# Altium schematic symbol library za_koncar.SchLib: 67 symbols
Pins are listed as number, name and electrical type; pins without a type are passive.

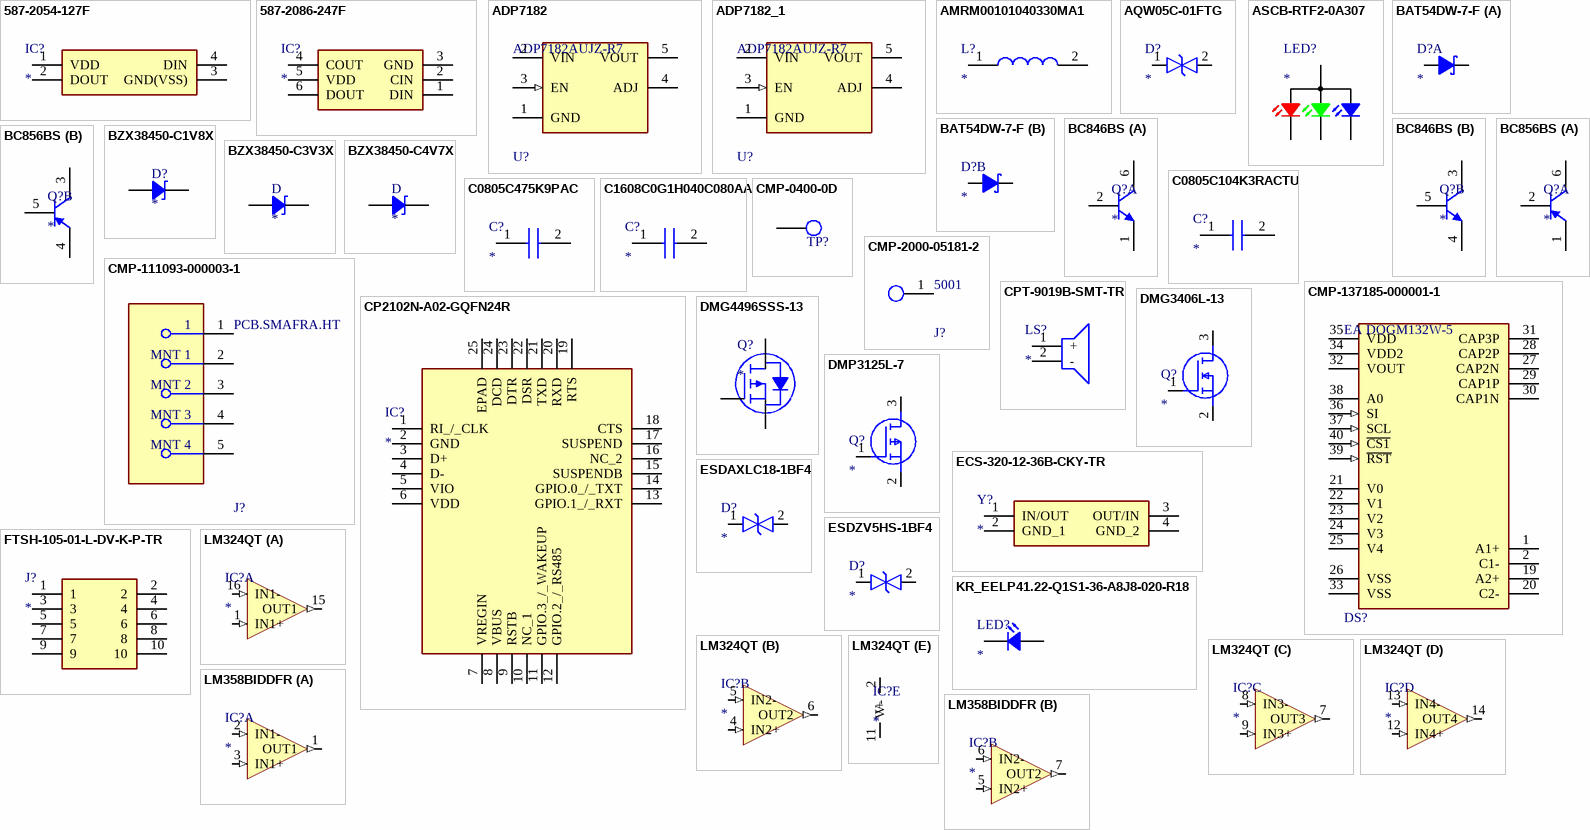
[diagram p0: symbols 587-2054-127F to LM358BIDDFR]

## 587-2054-127F
designator IC?
Integrated Circuit; Manufacturer_Name: Dialight; Manufacturer_Part_Number: 587-2054-127F; Datasheet Link: https://www.digikey.ph/en/products/detail/dialight/587-2054-127F/25321961; Height: 1.6mm; Mouser Part Number: 645-587-2054-127F; Mouser Price/Stock: https://www.mouser.co.uk/ProductDetail/Dialight/587-2054-127F?qs=iLKYxzqNS74CVWyAqozDmw%3D%3D
footprint 5872054127F
pins: 1 VDD, 2 DOUT, 3 GND(VSS), 4 DIN

## 587-2086-247F
designator IC?
Integrated Circuit; Manufacturer_Name: Dialight; Manufacturer_Part_Number: 587-2086-247F; Description: Addressable Lighting 587 1 LED Discrete Red; Datasheet Link: https://s3-us-west-2.amazonaws.com/catsy.557/Dialight_datasheet_587-2086-247F_Addressable_RGB.pdf; Height: 1mm; Mouser Part Number: 645-587-2086-247F; Mouser Price/Stock: https://www.mouser.co.uk/ProductDetail/Dialight/587-2086-247F?qs=iLKYxzqNS76TDIp9wEi56Q%3D%3D
footprint 5872086247F
pins: 1 DIN, 2 CIN, 3 GND, 4 COUT, 5 VDD, 6 DOUT

## ADP7182
designator U?, comment ADP7182AUJZ-R7
IC REG LIN NEG ADJ 200MA 5TSOT; Manufacturer: Analog Devices; Number Of Outputs: 1; Min Supply Voltage: -2.7V; Max Junction Temp: +125°C; Dropout Voltage: -185mV; Output Current: -200mA; Max Supply Voltage: -28V; Output Voltage: -1.22/-27.815V; Nominal Supply Current: -33/-650uA; Output Type: AdjustableProgrammable; Accuracy Percentage: 1%; RoHS: TRUE; Ambient Temperature Range Low: -40°C; Digikey Description: IC REG LIN NEG ADJ 200MA 5TSOT; Device Class L3: Voltage Regulators - Linear; Ambient Temperature Range High: +85°C; Manufacturer Part Number: ADP7182AUJZ-R7; ComponentLink2URL: https://www.analog.com/media/en/technical-documentation/data-sheets/ADP7182.pdf; Ipc Land Pattern Name: SOT95P280X100-5; Temperature Range Low: -40°C; ComponentLink2Description: Datasheet; Mouser Description: LDO Regulator Neg -1.22V to -27V 0.2A 5-Pin TSOT T/R; Category: IC; Automotive: No; Device Class L1: Integrated Circuits (ICs); Temperature: -40°C to +125°C; Octopart: https://octopart.com/adp7182aujz-r7-analog+devices-21054665; Device Class L2: Power Management ICs; Height: 1mm; Package: UJ-5; Temperature Range High: +125°C; Lead Free: Yes
footprint FP-UJ-5-IPC_B
pins: 1 GND (power), 2 VIN (power), 3 EN (in), 4 ADJ, 5 VOUT (power)

## ADP7182_1
designator U?, comment ADP7182AUJZ-R7
IC REG LIN NEG ADJ 200MA 5TSOT; Manufacturer: Analog Devices; Number Of Outputs: 1; Min Supply Voltage: -2.7V; Max Junction Temp: +125°C; Dropout Voltage: -185mV; Output Current: -200mA; Max Supply Voltage: -28V; Output Voltage: -1.22/-27.815V; Nominal Supply Current: -33/-650uA; Output Type: AdjustableProgrammable; Accuracy Percentage: 1%; RoHS: TRUE; Ambient Temperature Range Low: -40°C; Digikey Description: IC REG LIN NEG ADJ 200MA 5TSOT; Device Class L3: Voltage Regulators - Linear; Ambient Temperature Range High: +85°C; Manufacturer Part Number: ADP7182AUJZ-R7; ComponentLink2URL: https://www.analog.com/media/en/technical-documentation/data-sheets/ADP7182.pdf; Ipc Land Pattern Name: SOT95P280X100-5; Temperature Range Low: -40°C; ComponentLink2Description: Datasheet; Mouser Description: LDO Regulator Neg -1.22V to -27V 0.2A 5-Pin TSOT T/R; Category: IC; Automotive: No; Device Class L1: Integrated Circuits (ICs); Temperature: -40°C to +125°C; Octopart: https://octopart.com/adp7182aujz-r7-analog+devices-21054665; Device Class L2: Power Management ICs; Height: 1mm; Package: UJ-5; Temperature Range High: +125°C; Lead Free: Yes
footprint FP-UJ-5-IPC_B
pins: 1 GND (power), 2 VIN (power), 3 EN (in), 4 ADJ, 5 VOUT (power)

## AMRM00101040330MA1
designator L?
Inductor; Manufacturer_Name: Pulse Electronics; Manufacturer_Part_Number: AMRM00101040330MA1; Value: 33uH; Datasheet Link: https://productfinder.pulseelectronics.com/api/open/part-attachments/datasheet/amrm00101040330ma1; Height: 4mm; Mouser Part Number: 673-AMRM101040330MA1; Mouser Price/Stock: https://www.mouser.co.uk/ProductDetail/Pulse-Electronics/AMRM00101040330MA1?qs=HoCaDK9Nz5eI6M5ad0CXDA%3D%3D
footprint INDPM116102X400N
pins: 1, 2

## AQW05C-01FTG
designator D?
TVS Diode (Bi-directional); Manufacturer_Name: LITTELFUSE; Manufacturer_Part_Number: AQW05C-01FTG; Datasheet Link: https://www.littelfuse.com/media?resourcetype=datasheets&itemid=80ae0bbb-a157-46a1-97eb-84c82c82e9e5&filename=littelfuse-tvs-diode-array-aqw05c-01ftg-datasheet; Height: 1mm; Mouser Part Number: 576-AQW05C-01FTG; Mouser Price/Stock: https://www.mouser.co.uk/ProductDetail/Littelfuse/AQW05C-01FTG?qs=Z%252BL2brAPG1JHH8XKoKQPyw%3D%3D
footprint SOD2613X100N
pins: 1, 2

## ASCB-RTF2-0A307
designator LED?
LED; Manufacturer_Name: Avago Technologies; Manufacturer_Part_Number: ASCB-RTF2-0A307; Datasheet Link: https://docs.broadcom.com/doc/ASCB-RTF2-0A307-1716-Tricolor-PLCC-4-LED-DS; Height: 1.8mm; Mouser Part Number: 630-ASCB-RTF2-0A307; Mouser Price/Stock: https://www.mouser.co.uk/ProductDetail/Broadcom-Avago/ASCB-RTF2-0A307?qs=TuK3vfAjtkXoMfo3JwZUxg%3D%3D
footprint ASCBRTF20A307
pins: 1 COMMON_ANODE, 2 RED_CATHODE, 3 GREEN_CATHODE, 4 BLUE_CATHODE

## BAT54DW-7-F
designator D?
Diode; Manufacturer_Name: Diodes Incorporated; Manufacturer_Part_Number: BAT54DW-7-F; Datasheet Link: https://www.diodes.com//assets/Datasheets/BAT54DW.pdf; Height: 1.1mm; Mouser Part Number: 621-BAT54DW-F; Mouser Price/Stock: https://www.mouser.com/Search/Refine.aspx?Keyword=621-BAT54DW-F; Arrow Part Number: BAT54DW-7-F; Arrow Price/Stock: https://www.arrow.com/en/products/bat54dw-7-f/diodes-incorporated
footprint SOT65P222X110-6N
part A pins: 1 A1, 6 C1
part B pins: 3 C2, 4 A2

## BC846BS
designator Q?
65 V, 100 mA matched NPN/NPN general-purpose transistor; ComponentLink1Description: Datasheet; ComponentLink1URL: https://assets.nexperia.com/documents/data-sheet/BC846BS.pdf
footprint TSOP65P210X110-6N (TSOP, 6-Leads, Body 2.00x1.25mm, Pitch 0.65mm, IPC Medium Density)
part A pins: 1 E1, 2 B1, 6 C1
part B pins: 3 C2, 4 E2, 5 B2

## BC856BS
designator Q?
65 V, 100 mA matched PNP/PNP general-purpose transistor
footprint TSOP65P210X110-6N (TSOP, 6-Leads, Body 2.00x1.25mm, Pitch 0.65mm, IPC Medium Density)
part A pins: 1 E1, 2 B1, 6 C1
part B pins: 3 C2, 4 E2, 5 B2

## BZX38450-C1V8X
designator D?
footprint SOD323
pins: 1, 2

## BZX38450-C3V3X
designator D
footprint SOD323
pins: 1, 2

## BZX38450-C4V7X
designator D
footprint SOD323
pins: 1, 2

## C0805C104K3RACTU
designator C?
Capacitor; Manufacturer_Name: KEMET; Manufacturer_Part_Number: C0805C104K3RACTU; Datasheet Link: https://content.kemet.com/datasheets/KEM_C1002_X7R_SMD.pdf; Height: 1.1mm; Mouser Part Number: 80-C0805C104K3R; Mouser Price/Stock: https://www.mouser.co.uk/ProductDetail/KEMET/C0805C104K3RACTU?qs=zZwvocWqSRjmUvfNxkIN%2Fg%3D%3D; Arrow Part Number: C0805C104K3RACTU; Arrow Price/Stock: https://www.arrow.com/en/products/c0805c104k3ractu/kemet-corporation
footprint C0805
pins: 1, 2

## C0805C475K9PAC
designator C?
Capacitor; Manufacturer_Name: KEMET; Manufacturer_Part_Number: C0805C475K9PAC; Datasheet Link: https://componentsearchengine.com/Datasheets/2/C0805C475K8RACTU.pdf; Height: 1.4mm; Mouser Part Number: 80-C0805C475K9PAC; Mouser Price/Stock: https://www.mouser.co.uk/ProductDetail/KEMET/C0805C475K9PAC?qs=AHS6Mz2dKxNT7foClPNFpA%3D%3D; Arrow Part Number: C0805C475K9PAC; Arrow Price/Stock: https://www.arrow.com/en/products/c0805c475k9pac/kemet-corporation?region=nac
footprint C0805
pins: 1, 2

## C1608C0G1H040C080AA
designator C?
Capacitor; Manufacturer_Name: TDK; Manufacturer_Part_Number: C1608C0G1H040C080AA; Datasheet Link: https://product.tdk.com/info/en/catalog/datasheets/mlcc_commercial_midvoltage_en.pdf; Height: 0.8mm; Arrow Part Number: C1608C0G1H040C080AA; Arrow Price/Stock: https://www.arrow.com/en/products/c1608c0g1h040c080aa/tdk
footprint CAPC1608X80N
pins: 1, 2

## CMP-0400-0D
designator TP?, comment TP1  (value not drawn)  (no BOM)
Test pad, round, 1mm; Manufacturer: Končar; ManufacturerPartNumber: Test_pad_1mm; MountingType: SMD; PartStatus: Active; Value: TP1; ValueNumeric: TP1; ClassName: CH1
footprint Test pad 1mm
pins: 1

## CMP-2000-05181-2
designator J?, comment 5001
PC TEST POINT MINIATURE BLACK; Body Material: Bronze; Plating: Silver; Inside Diameter: 1.27mm; Hole Diameter: 1.6mm; Number of Ports: 1; Outside Diameter: 2.54mm; Insulation: Insulated; Insulation Material: Nylon; Mount: Through Hole; RoHS Compliant: Yes; Series: THM; Height: 0.3inch; Termination: Through Hole; Material: Nylon; Packaging: Bulk; Contact Material: Bronze; REACH SVHC: No SVHC; Contact Plating: Silver; Orientation: Straight; Lead Free: Lead Free; Package Quantity: 100; Length: 7.62mm; Flammability Rating: UL94 V-0; Number of Contacts: 1; Diameter: 2.54mm; Housing Color: Black; Color: Black
footprint FP-5001-MFG
pins: 1

## CMP-111093-000003-1
designator J?, comment PCB.SMAFRA.HT
CONN SMA JACK R/A 50OHM PCB; Dielectric Material: PTFE; Max Frequency: 6GHz; Body Material: Brass; Center Contact Plating: Gold; Voltage Rating: 500V; Operating Frequency: 0 to 6 GHz; Number of Ports: 1; Impedance: 50R; Housing Color: Gold; Mount: Through Hole; Orientation: Right Angle; Termination: Solder; Contact Material: Brass; Series: -; Contact Plating: Gold; Fastening Type: Threaded; Connector Type: SMA; Package Quantity: 500; Case/Package: SMA; Body Plating: Gold; Frequency: 6GHz; Packaging: Tray
footprint FP-PCB_SMAFRA_HT-MFG
pins: 1, 2 MNT 1, 3 MNT 2, 4 MNT 3, 5 MNT 4

## CMP-137185-000001-1
designator DS?, comment EA DOGM132W-5
LCD MOD GRAPH 132X32 Y/G; Supply Current: 140uA; Background Color: Green; Resolution (height): 32pixel; Fluid Type: STN POSITIVE; Interface: SPI; Viewing Area (width): 51mm; Resolution (width): 132pixel; Viewing Area (height): 15mm; RoHS Compliant: No; Height: 27.94mm; Min Operating Temperature: -20°C; Packaging: Bulk; Max Operating Temperature: 70°C; Nominal Supply Current: 140uA; Series: EA DOGM; Width: 55mm
footprint FP-EA_DOGM132L-5-MFG
pins: 1 A1+, 2 C1-, 19 A2+, 20 C2-, 21 V0, 22 V1, 23 V2, 24 V3, 25 V4, 26 VSS (power), 27 CAP2N, 28 CAP2P, 29 CAP1P, 30 CAP1N, 31 CAP3P, 32 VOUT (power), 33 VSS (power), 34 VDD2 (power), 35 VDD (power), 36 SI (in), 37 SCL (in), 38 A0, 39 ~{RST} (in), 40 ~{CS1} (in)

## CP2102N-A02-GQFN24R
designator IC?
Integrated Circuit; Manufacturer_Name: Silicon Labs; Manufacturer_Part_Number: CP2102N-A02-GQFN24R; Datasheet Link: https://www.silabs.com/documents/public/data-sheets/cp2102n-datasheet.pdf; Height: 0.8mm; Mouser Part Number: 634-CP2102NA02QFN24R; Mouser Price/Stock: https://www.mouser.co.uk/ProductDetail/Silicon-Labs/CP2102N-A02-GQFN24R?qs=u16ybLDytRaIVBf0X4zL0g%3D%3D; Arrow Part Number: CP2102N-A02-GQFN24R; Arrow Price/Stock: https://www.arrow.com/en/products/cp2102n-a02-gqfn24r/silicon-labs?utm_currency=USD&region=nac
footprint QFN50P400X400X80-25N-D
pins: 1 RI_/_CLK, 2 GND, 3 D+, 4 D-, 5 VIO, 6 VDD, 7 VREGIN, 8 VBUS, 9 RSTB, 10 NC_1, 11 GPIO.3_/_WAKEUP, 12 GPIO.2_/_RS485, 13 GPIO.1_/_RXT, 14 GPIO.0_/_TXT, 15 SUSPENDB, 16 NC_2, 17 SUSPEND, 18 CTS, 19 RTS, 20 RXD, 21 TXD, 22 DSR, 23 DTR, 24 DCD, 25 EPAD

## CPT-9019B-SMT-TR
designator LS?
Loudspeaker or Buzzer; Manufacturer_Name: Same Sky; Manufacturer_Part_Number: CPT-9019B-SMT-TR; Datasheet Link: https://www.sameskydevices.com/product/resource/supplyframepdf/cpt-9019b-smt-tr.pdf; Height: 2.1mm; Mouser Part Number: 179-CPT-9019B-SMT-TR; Mouser Price/Stock: https://www.mouser.co.uk/ProductDetail/CUI-Devices/CPT-9019B-SMT-TR?qs=3Rah4i%252BhyCGQOzp5C27TLw%3D%3D
footprint CPT9019BSMTTR
pins: 1 +, 2 -

## DMG3406L-13
designator Q?
MOSFET (N-Channel); Manufacturer_Name: Diodes Incorporated; Manufacturer_Part_Number: DMG3406L-13; Datasheet Link: https://www.diodes.com//assets/Datasheets/DMG3406L.pdf; Height: 1.1mm; Mouser Part Number: 621-DMG3406L-13; Mouser Price/Stock: https://www.mouser.co.uk/ProductDetail/Diodes-Incorporated/DMG3406L-13?qs=BvpHGKeVh3r%252BRZTTCOfjpg%3D%3D; Arrow Part Number: DMG3406L-13; Arrow Price/Stock: https://www.arrow.com/en/products/dmg3406l-13/diodes-incorporated?region=nac
footprint SOT96P240X110-3N
pins: 1 G, 2 S, 3 D

## DMG4496SSS-13
designator Q?
MOSFET (N-Channel); Manufacturer_Name: Diodes Incorporated; Manufacturer_Part_Number: DMG4496SSS-13; Datasheet Link: https://www.diodes.com//assets/Datasheets/ds32048.pdf; Height: 1.75mm; Mouser Part Number: 621-DMG4496SSS-13; Mouser Price/Stock: https://www.mouser.co.uk/ProductDetail/Diodes-Incorporated/DMG4496SSS-13?qs=TdAo5oSZJZPQGA%2FSpG2w%252BA%3D%3D; Arrow Part Number: DMG4496SSS-13; Arrow Price/Stock: https://www.arrow.com/en/products/dmg4496sss-13/diodes-incorporated?region=nac
footprint SOIC8-127P600X175-8N (SOIC, 8-Leads, Body 4.91x3.90mm, Pitch 1.27mm, IPC Medium Density)
pins: 1 G, 2 D, 3 S, 4 D

## DMP3125L-7
designator Q?
MOSFET (P-Channel); Manufacturer_Name: Diodes Incorporated; Manufacturer_Part_Number: DMP3125L-7; Datasheet Link: https://www.diodes.com//assets/Datasheets/DMP3125L.pdf; Height: 1.1mm; Mouser Part Number: 621-DMP3125L-7; Mouser Price/Stock: https://www.mouser.co.uk/ProductDetail/Diodes-Incorporated/DMP3125L-7?qs=W0yvOO0ixfH8ma8MdHfXQA%3D%3D; Arrow Part Number: DMP3125L-7; Arrow Price/Stock: https://www.arrow.com/en/products/dmp3125l-7/diodes-incorporated?region=nac
footprint SOT96P240X110-3N
pins: 1 G, 2 S, 3 D

## ECS-320-12-36B-CKY-TR
designator Y?
Crystal or Oscillator; Manufacturer_Name: ECS; Manufacturer_Part_Number: ECS-320-12-36B-CKY-TR; Datasheet Link: https://www.ecsxtal.com/store/pdf/ECX-2236B.pdf; Height: 0mm; Mouser Part Number: 520-320-12-36B-CKYT; Mouser Price/Stock: https://www.mouser.co.uk/ProductDetail/ECS/ECS-320-12-36B-CKY-TR?qs=l7cgNqFNU1juKISosFzRbg%3D%3D; Arrow Part Number: ECS-320-12-36B-CKY-TR; Arrow Price/Stock: https://www.arrow.com/en/products/ecs-320-12-36b-cky-tr/ecs-international
footprint ECS240836QAESTR
pins: 1 IN/OUT, 2 GND_1, 3 OUT/IN, 4 GND_2

## ESDAXLC18-1BF4
designator D?
TVS Diode (Bi-directional); Manufacturer_Name: STMicroelectronics; Manufacturer_Part_Number: ESDAXLC18-1BF4; Datasheet Link: https://www.st.com/resource/en/datasheet/esdaxlc18-1bf4.pdf; Height: 0.32mm; Mouser Part Number: 511-ESDAXLC18-1BF4; Mouser Price/Stock: https://www.mouser.co.uk/ProductDetail/STMicroelectronics/ESDAXLC18-1BF4?qs=Mv7BduZupUgBxpJyOqfYsQ%3D%3D; Arrow Part Number: ESDAXLC18-1BF4; Arrow Price/Stock: https://www.arrow.com/en/products/esdaxlc18-1bf4/stmicroelectronics
footprint ESDAXLC181BF4
pins: 1, 2

## ESDZV5HS-1BF4
designator D?
TVS Diode (Bi-directional); Manufacturer_Name: STMicroelectronics; Manufacturer_Part_Number: ESDZV5HS-1BF4; Datasheet Link: https://www.st.com/resource/en/datasheet/esdzv5hs-1bf4.pdf; Height: 0.33mm; Mouser Part Number: 511-ESDZV5HS-1BF4; Mouser Price/Stock: https://www.mouser.co.uk/ProductDetail/STMicroelectronics/ESDZV5HS-1BF4?qs=l7cgNqFNU1hPMpLiUWAylw%3D%3D; Arrow Part Number: ESDZV5HS-1BF4; Arrow Price/Stock: https://www.arrow.com/en/products/esdzv5hs-1bf4/stmicroelectronics?region=nac
footprint ESDZV5HS1BF4
pins: 1, 2

## FTSH-105-01-L-DV-K-P-TR
designator J?
Connector; Manufacturer_Name: SAMTEC; Manufacturer_Part_Number: FTSH-105-01-L-DV-K-P-TR; Datasheet Link: http://suddendocs.samtec.com/prints/ftsh-1xx-xx-xxx-dv-xxx-xxx-mkt.pdf; Mouser Part Number: 200-FTSH10501LDVKPTR; Mouser Price/Stock: https://www.mouser.co.uk/ProductDetail/Samtec/FTSH-105-01-L-DV-K-P-TR?qs=fnpEE5GccuMUjCRgxv4voQ%3D%3D; Arrow Part Number: FTSH-105-01-L-DV-K-P-TR; Arrow Price/Stock: https://www.arrow.com/en/products/ftsh-105-01-l-dv-k-p-tr/samtec?utm_currency=USD&region=europe
footprint FTSH-105-XX-YYY-DV-K-P-TR
pins: 1, 2, 3, 4, 5, 6, 7, 8, 9, 10

## KR_EELP41.22-Q1S1-36-A8J8-020-R18
designator LED?
LED; Manufacturer_Name: ams OSRAM; Manufacturer_Part_Number: KR EELP41.22-Q1S1-36-A8J8-020-R18; Datasheet Link: https://look.ams-osram.com/m/7eda7e8e2ca21691/original/KR-EELP41-22.pdf; Height: 0.5mm; Mouser Part Number: 720-P412Q1S136A8J802; Mouser Price/Stock: https://www.mouser.co.uk/ProductDetail/ams-OSRAM/KR-EELP41.22-Q1S1-36-A8J8-020-R18?qs=ZcfC38r4PouTxNZSRl%252Bn6g%3D%3D
footprint KREELP4122Q1S136A8J8020R18
pins: 1 K, 2 A

## LM324QT
designator IC?
Integrated Circuit; Manufacturer_Name: STMicroelectronics; Manufacturer_Part_Number: LM324QT; Datasheet Link: https://www.st.com/resource/en/datasheet/lm324.pdf; Height: 1mm; Mouser Part Number: 511-LM324QT; Mouser Price/Stock: https://www.mouser.co.uk/ProductDetail/STMicroelectronics/LM324QT?qs=T%2FOtf55vL7e5ZEne1Q0m9Q%3D%3D; Arrow Part Number: LM324QT; Arrow Price/Stock: https://www.arrow.com/en/products/lm324qt/stmicroelectronics?utm_currency=USD&region=europe
footprint QFN50P300X300X80-17N-D
part A pins: 1 IN1+ (in), 15 OUT1 (out), 16 IN1- (in)
part B pins: 4 IN2+ (in), 5 IN2- (in), 6 OUT2 (out)
part C pins: 7 OUT3 (out), 8 IN3- (in), 9 IN3+ (in)
part D pins: 12 IN4+ (in), 13 IN4- (in), 14 OUT4 (out)
part E pins: 2 V+ (power), 11 V- (power)

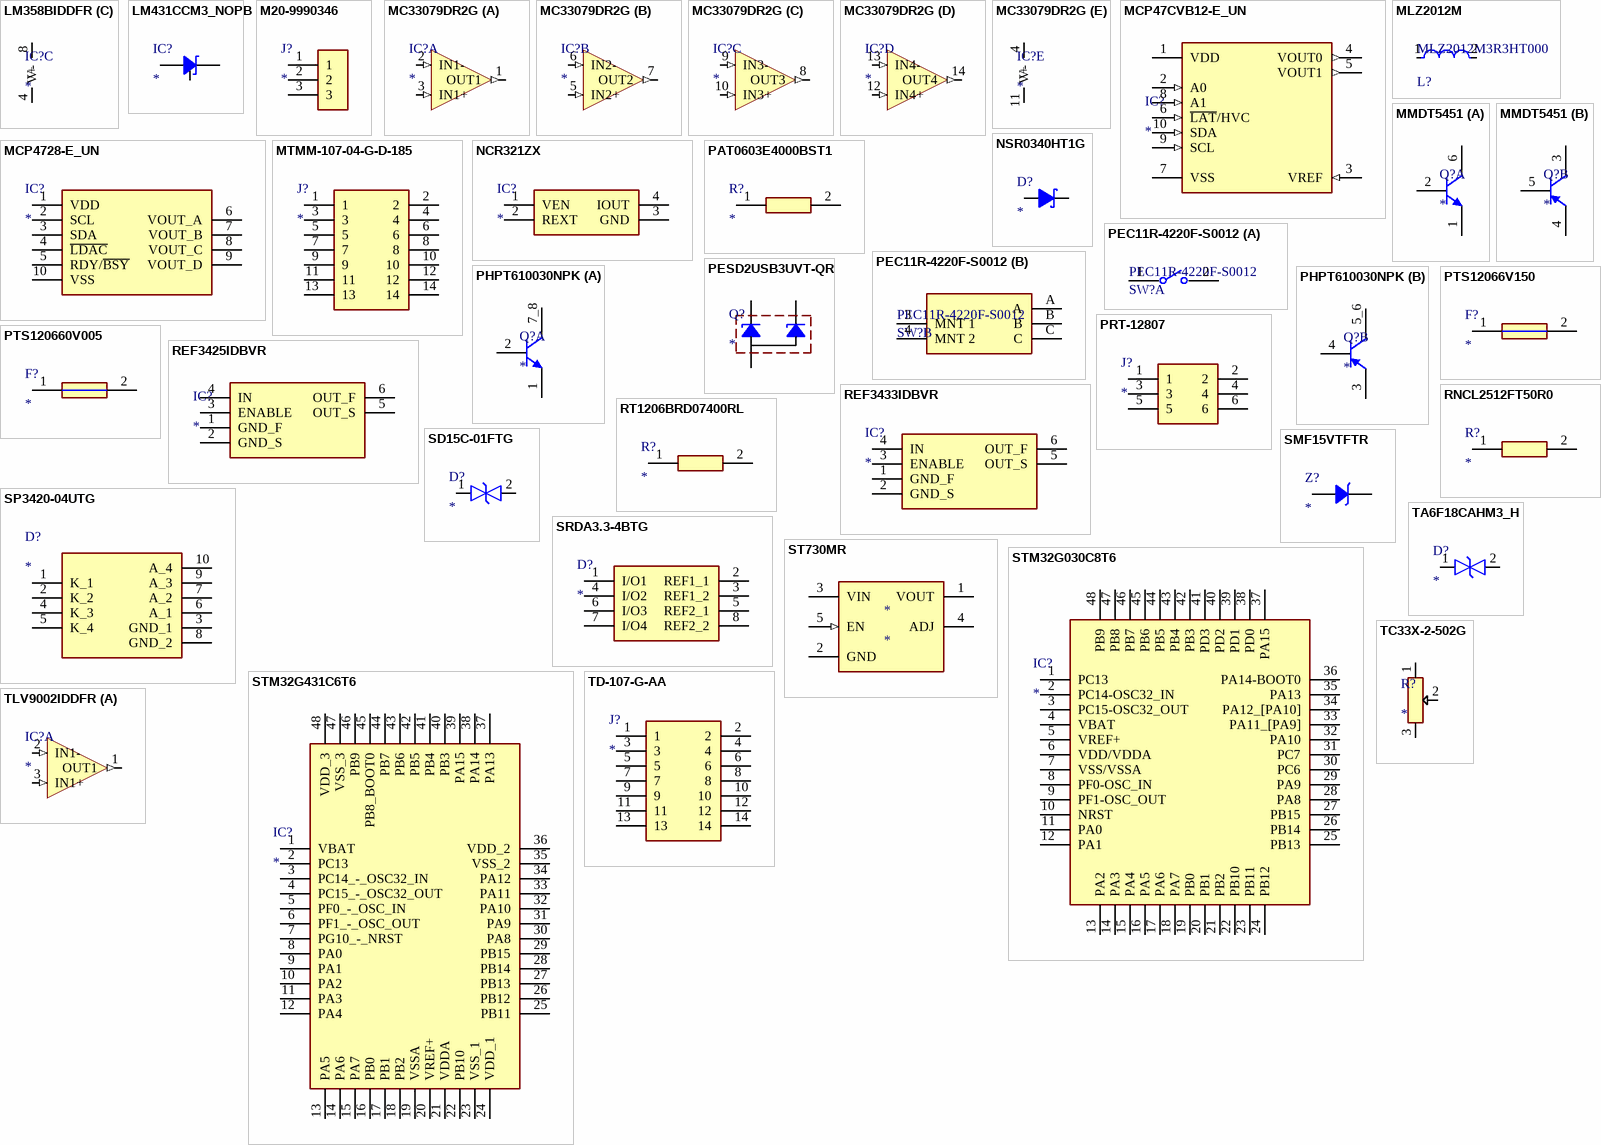
[diagram p1: symbols LM358BIDDFR to TLV9002IDDFR]

## LM358BIDDFR
designator IC?
Integrated Circuit; Manufacturer_Name: Texas Instruments; Manufacturer_Part_Number: LM358BIDDFR; Datasheet Link: https://www.ti.com/lit/ds/symlink/lm358.pdf?HQS=dis-dk-null-digikeymode-dsf-pf-null-wwe&ts=1637414494084&ref_url=https%253A%252F%252Fwww.ti.com%252Fgeneral%252Fdocs%252Fsuppproductinfo.tsp%253FdistId%253D10%2526gotoUrl%253Dhttps%253A%252F%252Fwww.ti.com%2; Height: 1.1mm; Mouser Part Number: 595-LM358BIDDFR; Mouser Price/Stock: https://www.mouser.co.uk/ProductDetail/Texas-Instruments/LM358BIDDFR?qs=Wj%2FVkw3K%252BMChENR0WviREw%3D%3D; Arrow Part Number: LM358BIDDFR; Arrow Price/Stock: https://www.arrow.com/en/products/lm358biddfr/texas-instruments?region=nac
footprint SOT65P280X110-8N
part A pins: 1 OUT1 (out), 2 IN1- (in), 3 IN1+ (in)
part B pins: 5 IN2+ (in), 6 IN2- (in), 7 OUT2 (out)
part C pins: 4 V- (power), 8 V+ (power)

## LM431CCM3_NOPB
designator IC?
Integrated Circuit; Manufacturer_Name: Texas Instruments; Manufacturer_Part_Number: LM431CCM3/NOPB; Datasheet Link: http://www.ti.com/lit/gpn/lm431; Height: 1.12mm; Mouser Part Number: 926-LM431CCM3/NOPB; Mouser Price/Stock: https://www.mouser.co.uk/ProductDetail/Texas-Instruments/LM431CCM3-NOPB?qs=QbsRYf82W3GICygfDXnqiw%3D%3D; Arrow Part Number: LM431CCM3/NOPB; Arrow Price/Stock: https://www.arrow.com/en/products/lm431ccm3nopb/texas-instruments?utm_currency=USD&region=nac
footprint SOT96P240X110-3N
pins: 1 Cathode, 2 Anode, 3 Ref

## M20-9990346
designator J?
Connector; Manufacturer_Name: Harwin; Manufacturer_Part_Number: M20-9990346; Datasheet Link: https://cdn.harwin.com/pdfs/M20-999.pdf; Height: 8.64mm; Mouser Part Number: 855-M20-9990346; Mouser Price/Stock: https://www.mouser.co.uk/ProductDetail/Harwin/M20-9990346?qs=ulE8k0yEMYbyhQ3uXpFs8Q%3D%3D
footprint HDRV3W64P0X254_1X3_762X254X864P - duplicate
pins: 1, 2, 3

## MC33079DR2G
designator IC?
Integrated Circuit; Manufacturer_Name: onsemi; Manufacturer_Part_Number: MC33079DR2G; Datasheet Link: https://www.onsemi.com/pub/Collateral/MC33078-D.PDF; Height: 1.75mm; Mouser Part Number: 863-MC33079DR2G; Mouser Price/Stock: https://www.mouser.co.uk/ProductDetail/onsemi/MC33079DR2G?qs=g2rIOKKlpoa9LEjz5JLClg%3D%3D; Arrow Part Number: MC33079DR2G; Arrow Price/Stock: https://www.arrow.com/en/products/mc33079dr2g/on-semiconductor?region=asia
footprint SOIC127P600X175-14N
part A pins: 1 OUT1 (out), 2 IN1- (in), 3 IN1+ (in)
part B pins: 5 IN2+ (in), 6 IN2- (in), 7 OUT2 (out)
part C pins: 8 OUT3 (out), 9 IN3- (in), 10 IN3+ (in)
part D pins: 12 IN4+ (in), 13 IN4- (in), 14 OUT4 (out)
part E pins: 4 V+ (power), 11 V- (power)

## MCP47CVB12-E_UN
designator IC?
Integrated Circuit; Manufacturer_Name: Microchip; Manufacturer_Part_Number: MCP47CVB12-E/UN; Datasheet Link: http://ww1.microchip.com/downloads/en/DeviceDoc/MCP47CXBXX-Data-Sheet-DS20006089B.pdf; Height: 1.1mm; Mouser Part Number: 579-MCP47CVB12-E/UN; Mouser Price/Stock: https://www.mouser.co.uk/ProductDetail/Microchip-Technology/MCP47CVB12-E-UN?qs=byeeYqUIh0Ou7V0RvK0Uow%3D%3D; Arrow Part Number: MCP47CVB12-E/UN; Arrow Price/Stock: https://www.arrow.com/en/products/mcp47cvb12-eun/microchip-technology?region=nac
footprint SOP50P490X110-10N
pins: 1 VDD (power), 2 A0 (in), 3 VREF (in), 4 VOUT0 (out), 5 VOUT1 (out), 6 ~{LAT}/HVC (in), 7 VSS (power), 8 A1 (in), 9 SCL (in), 10 SDA (in)

## MCP4728-E_UN
designator IC?
Integrated Circuit; Manufacturer_Name: Microchip; Manufacturer_Part_Number: MCP4728-E/UN; Datasheet Link: http://ww1.microchip.com/downloads/en/DeviceDoc/22187E.pdf; Height: 1.1mm; Mouser Part Number: 579-MCP4728-E/UN; Mouser Price/Stock: https://www.mouser.co.uk/ProductDetail/Microchip-Technology/MCP4728-E-UN?qs=E6wAi2XWqcP2zTenScklGA%3D%3D; Arrow Part Number: MCP4728-E/UN; Arrow Price/Stock: https://www.arrow.com/en/products/mcp4728-eun/microchip-technology?utm_currency=USD&region=nac
footprint SOP50P490X110-10N
pins: 1 VDD, 2 SCL, 3 SDA, 4 ~{LDAC}, 5 RDY/~{BSY}, 6 VOUT_A, 7 VOUT_B, 8 VOUT_C, 9 VOUT_D, 10 VSS

## MLZ2012M
designator L?, comment MLZ2012M3R3HT000
Shielded Multilayer Inductor 3.3uH ±20% 500mA 260mΩ SMD 0805; Saturation Current: 350mA; Core Material: Ferrite; DC Resistance (DCR): 260mR; RoHS Compliant: Yes; Mount: Surface Mount; Case Code (Metric): 2012; Case/Package: 0805; Min Operating Temperature: -55°C; Package Quantity: 2000; Shielding: Shielded; Current Rating: 500mA; Height - Seated (Max): 0.057inch; Case Code (Imperial): 0805; Width: 0.049inch; Tolerance: 20%; Packaging: Tape and Reel; Inductance: 3.3uH; Lead Free: Lead Free; Max Operating Temperature: 125°C; Length: 0.079inch; Value: 3.3uH
footprint FP-MLZ2012-1_25-IPC_B
pins: 1, 2

## MMDT5451
designator Q?
160 V, 200 mA NPN/PNP complementary general-purpose transistor
footprint TSOP65P210X110-6N (TSOP, 6-Leads, Body 2.00x1.25mm, Pitch 0.65mm, IPC Medium Density)
part A pins: 1 E1, 2 B1, 6 C1
part B pins: 3 C2, 4 E2, 5 B2

## MTMM-107-04-G-D-185
designator J?
Connector; Manufacturer_Name: SAMTEC; Manufacturer_Part_Number: MTMM-107-04-G-D-185; Datasheet Link: https://suddendocs.samtec.com/prints/mtmm-1xx-xx-xx-x-xxx-xx-xxx-mkt.pdf?_gl=1*gklr36*_gcl_aw*R0NMLjE3NDEzMjczNDIuQ2p3S0NBaUFyS1ctQmhBekVpd0FaaFdzSU81NXRXcmh5VS16b3pEZ1BfdFZablZIZUl1bFk4SG5uQlVzb0JsazkxbHVlaFo1OVhKaGZCb0N5SGtRQXZEX0J3RQ..*_gcl_au*OTA0NjU5; Height: 8.333mm; Mouser Part Number: 200-MTMM10704GD185; Mouser Price/Stock: https://www.mouser.co.uk/ProductDetail/Samtec/MTMM-107-04-G-D-185?qs=DJA8%252BIqD56WvW%2Fj12n4w4g%3D%3D
footprint MTMM10704GD185
pins: 1, 2, 3, 4, 5, 6, 7, 8, 9, 10, 11, 12, 13, 14

## NCR321ZX
designator IC?
Integrated Circuit; Manufacturer_Name: Nexperia; Manufacturer_Part_Number: NCR321ZX; Datasheet Link: https://componentsearchengine.com/Datasheets/2/NCR321ZX.pdf; Height: 1.8mm; Mouser Part Number: 771-NCR321ZX; Mouser Price/Stock: https://www.mouser.co.uk/ProductDetail/Nexperia/NCR321ZX?qs=ahcBuItHZ3zTr8W8PrL%2FCg%3D%3D; Arrow Part Number: NCR321ZX; Arrow Price/Stock: https://www.arrow.com/en/products/ncr321zx/nexperia?region=nac
footprint SOT230P700X180-4N
pins: 1 VEN, 2 REXT, 3 GND, 4 IOUT

## NSR0340HT1G
designator D?
Diode; Manufacturer_Name: onsemi; Manufacturer_Part_Number: NSR0340HT1G; Datasheet Link: https://www.onsemi.com/pub/Collateral/NSR0340H-D.PDF; Height: 1.1mm; Mouser Part Number: 863-NSR0340HT1G; Mouser Price/Stock: https://www.mouser.co.uk/ProductDetail/onsemi/NSR0340HT1G?qs=agb4oTp1Mj%2FMC6G4Sgc%2FTQ%3D%3D; Arrow Part Number: NSR0340HT1G; Arrow Price/Stock: https://www.arrow.com/en/products/nsr0340ht1g/on-semiconductor?utm_currency=USD&region=nac
footprint SOD2512X110N
pins: 1 C, 2 A

## PAT0603E4000BST1
designator R?
Resistor; Manufacturer_Name: Vishay; Manufacturer_Part_Number: PAT0603E4000BST1; Datasheet Link: https://www.vishay.com/docs/60024/pat.pdf; Height: 0.457mm; Mouser Part Number: 71-PAT0603E4000BST1; Mouser Price/Stock: https://www.mouser.co.uk/ProductDetail/Vishay-Thin-Film/PAT0603E4000BST1?qs=Bakm8ERcljqViks9GK20nA%3D%3D; Arrow Part Number: PAT0603E4000BST1; Arrow Price/Stock: https://www.arrow.com/en/products/pat0603e4000bst1/vishay
footprint RESC1608X46N
pins: 1, 2

## PEC11R-4220F-S0012
designator SW?
ROTARY ENCODER MECHANICAL 12PPR; Built in Switch: Yes; Number of Channels: 2; Output Type: Quadrature; Hole Diameter: 7mm; Pulses per Revolution: 12; Termination: PC Pin; Package Quantity: 150; RoHS Compliant: Yes; Mount: Through Hole; Width: 12.5mm; Radiation Hardening: No; Number of Pins: 5; REACH SVHC: No SVHC; Type: Mechanical; Packaging: Bulk; Min Operating Temperature: -30°C; Encoder Type: Mechanical; Height: 13.4mm; Length: 26.5mm; Orientation: Vertical; Max Operating Temperature: 70°C; Series: PEC11R; Detent: Yes
footprint FP-PEC11R-4220F-S0012-MFG
part A pins: 1, 2
part B pins: 3 MNT 1, 4 MNT 2, A, B, C

## PESD2USB3UVT-QR
designator Q?
Transistor; Manufacturer_Name: Nexperia; Manufacturer_Part_Number: PESD2USB3UVT-QR; Datasheet Link: https://assets.nexperia.com/documents/data-sheet/PESD2USB3UVT-Q.pdf; Height: 1.1mm; Mouser Part Number: 771-PESD2USB3UVT-QR; Mouser Price/Stock: https://www.mouser.co.uk/ProductDetail/Nexperia/PESD2USB3UVT-QR?qs=3Rah4i%252BhyCFPJOQFghMZ%252BQ%3D%3D; Arrow Part Number: PESD2USB3UVT-QR; Arrow Price/Stock: https://www.arrow.com/en/products/pesd2usb3uvt-qr/nexperia?utm_currency=USD&region=europe
footprint SOT95P230X110-3N
pins: 1 K1, 2 K2, 3 CA

## PHPT610030NPK
designator Q?
ComponentLink1Description: Datasheet; ComponentLink1URL: https://assets.nexperia.com/documents/data-sheet/PHPT610030NPK.pdf; ComponentLink2Description: Supplier; ComponentLink2URL: https://hr.mouser.com/ProductDetail/Nexperia/PHPT610030NPKX?qs=%252BRKXB2WKlSeoXKhT5DAScw%3D%3D
footprint TRANS_BUK9K18-40E,115
part A pins: 1 E1, 2 B1, 7_8 C1
part B pins: 3 E2, 4 B2, 5_6 C2

## PRT-12807
designator J?
Connector; Manufacturer_Name: SparkFun; Manufacturer_Part_Number: PRT-12807; Datasheet Link: https://cdn.sparkfun.com/datasheets/Prototyping/00989.pdf; Height: 8.84mm; Mouser Part Number: 474-PRT-12807; Mouser Price/Stock: https://www.mouser.co.uk/ProductDetail/SparkFun/PRT-12807?qs=WyAARYrbSnYnpz4kKzOm4A%3D%3D; Arrow Part Number: PRT-12807; Arrow Price/Stock: https://www.arrow.com/en/products/prt-12807/sparkfun-electronics
footprint HDRV6W82P254_2X3_762X500X884P
pins: 1, 2, 3, 4, 5, 6

## PTS12066V150
designator F?
Fuse; Manufacturer_Name: Eaton; Manufacturer_Part_Number: PTS12066V150; Datasheet Link: https://in.element14.com/eaton-bussmann-series/pts120660v005/pptc-resettable-fuse-0-05a-60vdc/dp/2929344?srsltid=AfmBOorX1B25_1GKuczfUlW7ilxwoZgl3KmxHJmMFzJpoWYAJ50DmC3S; Height: 0.9mm; Mouser Part Number: 504-PTS12066V150; Mouser Price/Stock: https://www.mouser.co.uk/ProductDetail/Eaton-Electronics/PTS120660V005?qs=QmibqUXyDhQPirhmCJ6OpQ%3D%3D; Arrow Part Number: PTS120660V005; Arrow Price/Stock: https://www.arrow.com/en/products/pts120660v005/eaton?region=europe
footprint FUSC3216X90N
pins: 1, 2

## PTS120660V005
designator F?
Fuse; Manufacturer_Name: Eaton; Manufacturer_Part_Number: PTS120660V005; Datasheet Link: https://in.element14.com/eaton-bussmann-series/pts120660v005/pptc-resettable-fuse-0-05a-60vdc/dp/2929344?srsltid=AfmBOorX1B25_1GKuczfUlW7ilxwoZgl3KmxHJmMFzJpoWYAJ50DmC3S; Height: 0.9mm; Mouser Part Number: 504-PTS120660V005; Mouser Price/Stock: https://www.mouser.co.uk/ProductDetail/Eaton-Electronics/PTS120660V005?qs=QmibqUXyDhQPirhmCJ6OpQ%3D%3D; Arrow Part Number: PTS120660V005; Arrow Price/Stock: https://www.arrow.com/en/products/pts120660v005/eaton?region=europe
footprint FUSC3216X90N
pins: 1, 2

## REF3425IDBVR
designator IC?
Integrated Circuit; Manufacturer_Name: Texas Instruments; Manufacturer_Part_Number: REF3425IDBVR; Datasheet Link: http://www.ti.com/lit/ds/symlink/ref3425.pdf; Height: 1.45mm; Mouser Part Number: 595-REF3425IDBVR; Mouser Price/Stock: https://www.mouser.co.uk/ProductDetail/Texas-Instruments/REF3425IDBVR?qs=YCa%2FAAYMW01YJo5s3bO8wA%3D%3D; Arrow Part Number: REF3425IDBVR; Arrow Price/Stock: https://www.arrow.com/en/products/ref3425idbvr/texas-instruments?region=nac
footprint SOT95P280X145-6N
pins: 1 GND_F, 2 GND_S, 3 ENABLE, 4 IN, 5 OUT_S, 6 OUT_F

## REF3433IDBVR
designator IC?
Integrated Circuit; Manufacturer_Name: Texas Instruments; Manufacturer_Part_Number: REF3433IDBVR; Datasheet Link: http://www.ti.com/lit/ds/symlink/ref3433.pdf; Height: 1.45mm; Mouser Part Number: 595-REF3433IDBVR; Mouser Price/Stock: https://www.mouser.co.uk/ProductDetail/Texas-Instruments/REF3433IDBVR?qs=W0yvOO0ixfGBJPqcMgjPbw%3D%3D; Arrow Part Number: REF3433IDBVR; Arrow Price/Stock: https://www.arrow.com/en/products/ref3433idbvr/texas-instruments?utm_currency=USD&region=nac
footprint SOT95P280X145-6N
pins: 1 GND_F, 2 GND_S, 3 ENABLE, 4 IN, 5 OUT_S, 6 OUT_F

## RNCL2512FT50R0
designator R?
Resistor; Manufacturer_Name: Stackpole Electronics; Manufacturer_Part_Number: RNCL2512FT50R0; Resistance: 50; Datasheet Link: https://www.seielect.com/catalog/sei-rncl.pdf; Height: 0.65mm
footprint RESC6332X65N
pins: 1, 2

## RT1206BRD07400RL
designator R?
Resistor; Manufacturer_Name: YAGEO; Manufacturer_Part_Number: RT1206BRD07400RL; Datasheet Link: https://www.mouser.fr/datasheet/2/447/PYu_RT_1_to_0_01_RoHS_L_15-3461507.pdf; Height: 0.65mm; Mouser Part Number: 603-RT1206BRD07400RL; Mouser Price/Stock: https://www.mouser.co.uk/ProductDetail/YAGEO/RT1206BRD07400RL?qs=NgbZBzc1CyGp8d%2FABgImbQ%3D%3D; Arrow Part Number: RT1206BRD07400RL; Arrow Price/Stock: null?region=nac
footprint RESC3116X65N
pins: 1, 2

## SD15C-01FTG
designator D?
TVS Diode (Bi-directional); Manufacturer_Name: LITTELFUSE; Manufacturer_Part_Number: SD15C-01FTG; Datasheet Link: https://www.arrow.com/en/products/sd15c-01ftg/littelfuse; Height: 1.14mm; Mouser Part Number: 576-SD15C-01FTG; Mouser Price/Stock: https://www.mouser.co.uk/ProductDetail/Littelfuse/SD15C-01FTG?qs=4zl93aaztU8pjSvpxpJP6g%3D%3D; Arrow Part Number: SD15C-01FTG; Arrow Price/Stock: https://www.arrow.com/en/products/sd15c-01ftg/littelfuse?region=nac
footprint SD15C01FTG
pins: 1, 2

## SMF15VTFTR
designator Z?
Zener Diode; Manufacturer_Name: ROHM Semiconductor; Manufacturer_Part_Number: SMF15VTFTR; Datasheet Link: https://fscdn.rohm.com/en/products/databook/datasheet/discrete/diode/zener/smf15vtftr-e.pdf; Height: 0.9mm; Mouser Part Number: 755-SMF15VTFTR; Mouser Price/Stock: https://www.mouser.co.uk/ProductDetail/ROHM-Semiconductor/SMF15VTFTR?qs=HXFqYaX1Q2wU8NS9uLe0xg%3D%3D
footprint SMF15VTFTR
pins: 1, 2

## SP3420-04UTG
designator D?
TVS Diode (Uni-directional); Manufacturer_Name: LITTELFUSE; Manufacturer_Part_Number: SP3420-04UTG; Datasheet Link: https://componentsearchengine.com/Datasheets/1/SP3420-04UTG.pdf; Height: 0.6mm; Mouser Part Number: 576-SP3420-04UTG; Mouser Price/Stock: https://www.mouser.co.uk/ProductDetail/Littelfuse/SP3420-04UTG?qs=d0WKAl%252BL4KadTnBionJ8CA%3D%3D; Arrow Part Number: SP3420-04UTG; Arrow Price/Stock: https://www.arrow.com/en/products/sp3420-04utg/littelfuse?region=nac
footprint SP342004UTG
pins: 1 K_1, 2 K_2, 3 GND_1, 4 K_3, 5 K_4, 6 A_1, 7 A_2, 8 GND_2, 9 A_3, 10 A_4

## SRDA3.3-4BTG
designator D?
TVS Diode (Bi-directional); Manufacturer_Name: LITTELFUSE; Manufacturer_Part_Number: SRDA3.3-4BTG; Datasheet Link: https://www.littelfuse.com/~/media/electronics/datasheets/tvs_diode_arrays/littelfuse_tvs_diode_array_srda3_3_datasheet.pdf.pdf; Height: 1.75mm; Mouser Part Number: 576-SRDA3.3-4BTG; Mouser Price/Stock: https://www.mouser.co.uk/ProductDetail/Littelfuse/SRDA3.3-4BTG?qs=wqPJ3MBjhrh9DaqZL3Nnvw%3D%3D; Arrow Part Number: SRDA3.3-4BTG; Arrow Price/Stock: https://www.arrow.com/en/products/srda3.3-4btg/littelfuse?utm_currency=USD&region=nac
footprint SOIC8-127P600X175-8N (SOIC, 8-Leads, Body 4.91x3.90mm, Pitch 1.27mm, IPC Medium Density)
pins: 1 I/O1, 2 REF1_1, 3 REF1_2, 4 I/O2, 5 REF2_1, 6 I/O3, 7 I/O4, 8 REF2_2

## ST730MR
designator *
footprint FP-UJ-5-IPC_B
pins: 1 VOUT (power), 2 GND (power), 3 VIN (power), 4 ADJ, 5 EN (in)

## STM32G030C8T6
designator IC?
Integrated Circuit; Manufacturer_Name: STMicroelectronics; Manufacturer_Part_Number: STM32G030C8T6; Datasheet Link: https://componentsearchengine.com/Datasheets/1/STM32G030C8T6.pdf; Height: 1.6mm; Mouser Part Number: 511-STM32G030C8T6; Mouser Price/Stock: https://www.mouser.co.uk/ProductDetail/STMicroelectronics/STM32G030C8T6?qs=uwxL4vQweFMKBA8wRRkiWA%3D%3D; Arrow Part Number: STM32G030C8T6; Arrow Price/Stock: https://www.arrow.com/en/products/stm32g030c8t6/stmicroelectronics?utm_currency=USD&region=nac
footprint QFP50P900X900X160-48N
pins: 1 PC13, 2 PC14-OSC32_IN, 3 PC15-OSC32_OUT, 4 VBAT, 5 VREF+, 6 VDD/VDDA, 7 VSS/VSSA, 8 PF0-OSC_IN, 9 PF1-OSC_OUT, 10 NRST, 11 PA0, 12 PA1, 13 PA2, 14 PA3, 15 PA4, 16 PA5, 17 PA6, 18 PA7, 19 PB0, 20 PB1, 21 PB2, 22 PB10, 23 PB11, 24 PB12, 25 PB13, 26 PB14, 27 PB15, 28 PA8, 29 PA9, 30 PC6, 31 PC7, 32 PA10, 33 PA11_[PA9], 34 PA12_[PA10], 35 PA13, 36 PA14-BOOT0, 37 PA15, 38 PD0, 39 PD1, 40 PD2, 41 PD3, 42 PB3, 43 PB4, 44 PB5, 45 PB6, 46 PB7, 47 PB8, 48 PB9

## STM32G431C6T6
designator IC?
Integrated Circuit; Manufacturer_Name: STMicroelectronics; Manufacturer_Part_Number: STM32G431C6T6; Datasheet Link: https://componentsearchengine.com/Datasheets/1/STM32G431C6T6.pdf; Height: 1.6mm; Mouser Part Number: 511-STM32G431C6T6; Mouser Price/Stock: https://www.mouser.co.uk/ProductDetail/STMicroelectronics/STM32G431C6T6?qs=uwxL4vQweFMIHkXLHKxSFQ%3D%3D; Arrow Part Number: STM32G431C6T6; Arrow Price/Stock: https://www.arrow.com/en/products/stm32g431c6t6/stmicroelectronics?utm_currency=USD&region=nac
footprint QFP50P900X900X160-48N
pins: 1 VBAT, 2 PC13, 3 PC14_-_OSC32_IN, 4 PC15_-_OSC32_OUT, 5 PF0_-_OSC_IN, 6 PF1_-_OSC_OUT, 7 PG10_-_NRST, 8 PA0, 9 PA1, 10 PA2, 11 PA3, 12 PA4, 13 PA5, 14 PA6, 15 PA7, 16 PB0, 17 PB1, 18 PB2, 19 VSSA, 20 VREF+, 21 VDDA, 22 PB10, 23 VSS_1, 24 VDD_1, 25 PB11, 26 PB12, 27 PB13, 28 PB14, 29 PB15, 30 PA8, 31 PA9, 32 PA10, 33 PA11, 34 PA12, 35 VSS_2, 36 VDD_2, 37 PA13, 38 PA14, 39 PA15, 40 PB3, 41 PB4, 42 PB5, 43 PB6, 44 PB7, 45 PB8_BOOT0, 46 PB9, 47 VSS_3, 48 VDD_3

## TA6F18CAHM3_H
designator D?
TVS Diode (Bi-directional); Manufacturer_Name: Vishay; Manufacturer_Part_Number: TA6F18CAHM3/H; Datasheet Link: https://www.vishay.com/docs/98718/ta6f12ca_thru_ta6f100ca.pdf; Height: 1mm; Mouser Part Number: 78-TA6F18CAHM3/H; Mouser Price/Stock: https://www.mouser.co.uk/ProductDetail/Vishay/TA6F18CAHM3-H?qs=7%2F6SraaimPTwUqKdNIO8bQ%3D%3D
footprint SODFL5226X100N
pins: 1, 2

## TC33X-2-502G
designator R?
Resistor; Manufacturer_Name: Bourns; Manufacturer_Part_Number: TC33X-2-502G; Datasheet Link: https://componentsearchengine.com/Datasheets/1/TC33X-2-502G.pdf; Height: 1.2mm; Mouser Part Number: 652-TC33X-2-502G; Mouser Price/Stock: https://www.mouser.co.uk/ProductDetail/Bourns/TC33X-2-502G?qs=UmpSLsh52mVfPYqLYJpjzQ%3D%3D; Arrow Part Number: TC33X-2-502G; Arrow Price/Stock: https://www.arrow.com/en/products/tc33x-2-502g/bourns?region=nac
footprint TC33X2503E
pins: 1 CCW, 2 W, 3 CW

## TD-107-G-AA
designator J?
Connector; Manufacturer_Name: SAMTEC; Manufacturer_Part_Number: TD-107-G-AA; Datasheet Link: https://suddendocs.samtec.com/catalog_english/td.pdf?_gl=1*1wt4qt0*_ga*MTEzMjQwMzYxOS4xNjk3ODEzMDcx*_ga_3KFNZC07WW*MTcxMjgzNDUyOC40My4xLjE3MTI4MzQ1ODguNjAuMC4w; Height: 8.18mm; Mouser Part Number: 200-TD107GAA; Mouser Price/Stock: https://www.mouser.co.uk/ProductDetail/Samtec/TD-107-G-AA?qs=0lQeLiL1qybxLJvA9lDIZA%3D%3D; Arrow Part Number: TD-107-G-AA; Arrow Price/Stock: https://www.arrow.com/en/products/td-107-g-aa/samtec
footprint HDRV14W46P254_2X7_1778X508X818P
pins: 1, 2, 3, 4, 5, 6, 7, 8, 9, 10, 11, 12, 13, 14

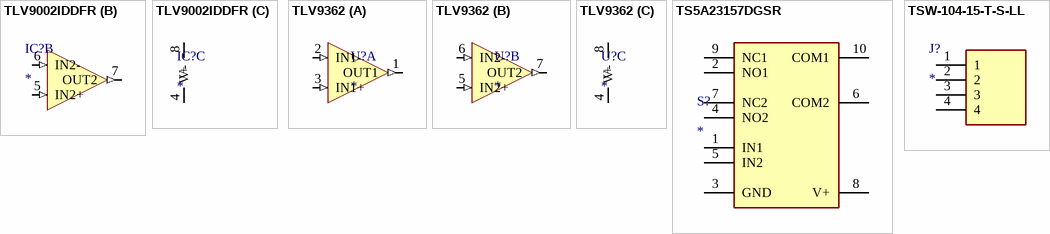
[diagram p2: symbols TLV9002IDDFR to TSW-104-15-T-S-LL]

## TLV9002IDDFR
designator IC?
Integrated Circuit; Manufacturer_Name: Texas Instruments; Manufacturer_Part_Number: TLV9002IDDFR; Datasheet Link: https://www.ti.com/lit/gpn/TLV9002; Height: 1.1mm; Mouser Part Number: 595-TLV9002IDDFR; Mouser Price/Stock: https://www.mouser.co.uk/ProductDetail/Texas-Instruments/TLV9002IDDFR?qs=mAH9sUMRCtuVJ6NmNV%252Bgrw%3D%3D; Arrow Part Number: TLV9002IDDFR; Arrow Price/Stock: https://www.arrow.com/en/products/tlv9002iddfr/texas-instruments?utm_currency=USD&region=nac
footprint SOT65P280X110-8N
part A pins: 1 OUT1 (out), 2 IN1- (in), 3 IN1+ (in)
part B pins: 5 IN2+ (in), 6 IN2- (in), 7 OUT2 (out)
part C pins: 4 V- (power), 8 V+ (power)

## TLV9362
designator U?
TLV936x 10-MHz, 40-V, RRO, Operational Amplifie; ComponentLink1Description: Datasheet; ComponentLink1URL: https://www.ti.com/lit/ds/symlink/tlv9362.pdf
footprint SOIC8-127P600X175-8N (SOIC, 8-Leads, Body 4.91x3.90mm, Pitch 1.27mm, IPC Medium Density)
part A pins: 1 OUT1 (out), 2 IN1- (in), 3 IN1+ (in)
part B pins: 5 IN2+ (in), 6 IN2- (in), 7 OUT2 (out)
part C pins: 4 V- (power), 8 V+ (power)

## TS5A23157DGSR
designator S?
Switch; Manufacturer_Name: Texas Instruments; Manufacturer_Part_Number: TS5A23157DGSR; Datasheet Link: http://www.ti.com/lit/gpn/ts5a23157; Height: 1.1mm; Mouser Part Number: 595-TS5A23157DGSR; Mouser Price/Stock: https://www.mouser.co.uk/ProductDetail/Texas-Instruments/TS5A23157DGSR?qs=0O%2FZFlpUpJX9eVefTbxh%2FA%3D%3D; Arrow Part Number: TS5A23157DGSR; Arrow Price/Stock: https://www.arrow.com/en/products/ts5a23157dgsr/texas-instruments?utm_currency=USD&region=nac
footprint SOP50P490X110-10N
pins: 1 IN1, 2 NO1, 3 GND, 4 NO2, 5 IN2, 6 COM2, 7 NC2, 8 V+, 9 NC1, 10 COM1

## TSW-104-15-T-S-LL
designator J?
Connector; Manufacturer_Name: SAMTEC; Manufacturer_Part_Number: TSW-104-15-T-S-LL; Datasheet Link: http://suddendocs.samtec.com/catalog_english/tsw_th.pdf; Height: 15.75mm; Mouser Part Number: 200-TSW10415TSLL; Mouser Price/Stock: https://www.mouser.co.uk/ProductDetail/Samtec/TSW-104-15-T-S-LL?qs=rU5fayqh%252BE1Oq%252BEC9ZwiVQ%3D%3D
footprint HDRV4W64P254_1X4_1016X241X1575P
pins: 1, 2, 3, 4